# Altium schematic symbol library MLPF-WB55-01E3.SchLib: 2 symbols
Pins are listed as number, name and electrical type; pins without a type are passive.

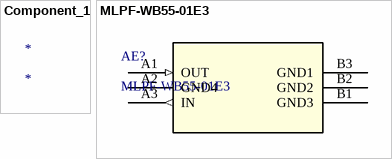
[diagram p0: symbols Component_1 to MLPF-WB55-01E3]

## Component_1
designator *

## MLPF-WB55-01E3
designator AE?
2.4 GHz Matched filter companion chip for STM32WB55Cx and STM32WB55Rx; Manufacturer_Name: STMicroelectronics; Copyright: Copyright (C) 2025 Ultra Librarian. All rights reserved.; Manufacturer_Part_Number: MLPF-WB55-01E3; Datasheet: https://www.st.com/resource/en/datasheet/mlpf-wb55-01e3.pdf; RefDes: RefDes; Type: Type
footprint MLPF-WB55-01E3_STM
pins: A1 OUT (in), A2 GND4 (power), A3 IN (out), B1 GND3 (power), B2 GND2 (power), B3 GND1 (power)